# Altium footprint library Train2.PCBLIB: 223 footprints (part 4 of 14)
Each footprint in its own frame and in the unit in brackets; x right, y up, seen from the top. Pads: shape width x height; smd on the part's side, far side on the other; paste and mask are expansions set on the pad; w line width, h text height; cw(c..) or ccw(c..) is an arc to the next point about the centre after c.
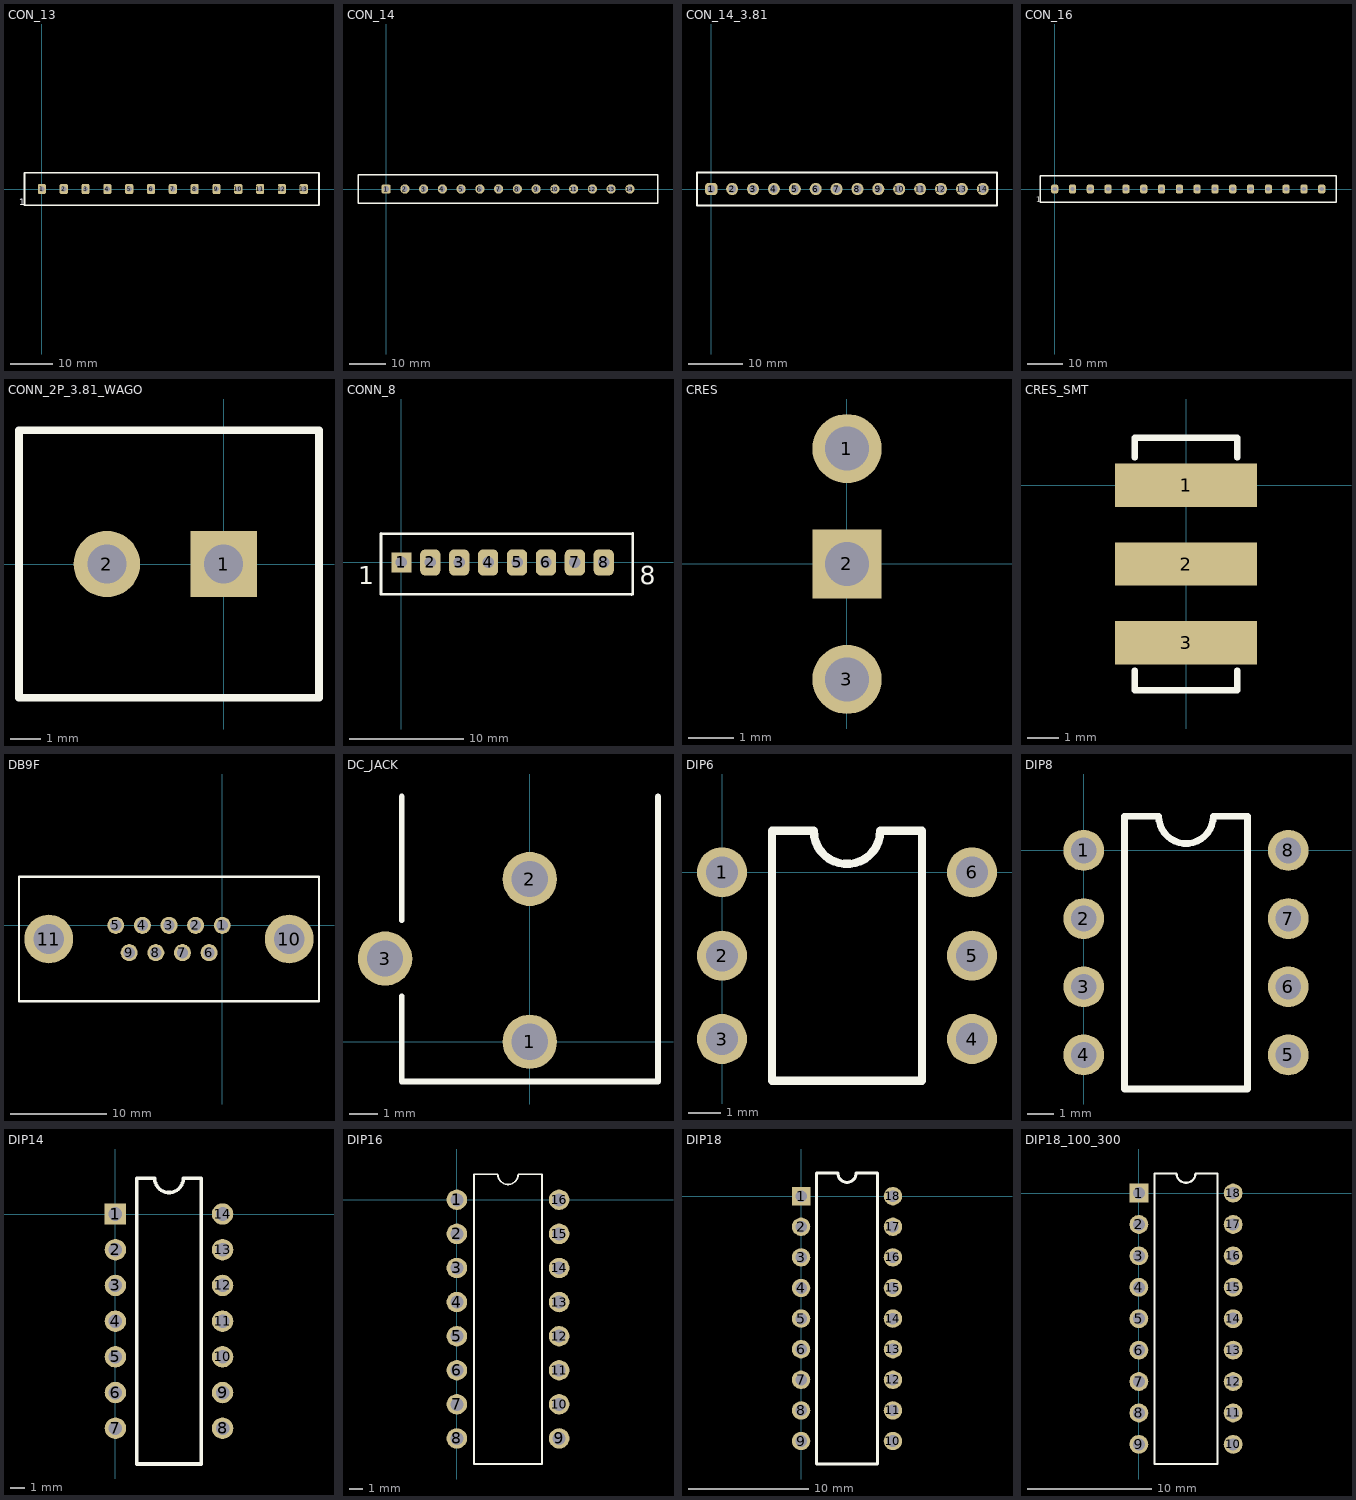
[diagram p3: the footprints below, top view; thin cyan lines are the x and y axes]

## CON_13 [mil]
pads (13):
  rrect50% 75x95 hole 48: 1(0,0) 2(200,0) 3(400,0) 4(600,0) 5(800,0) 6(1000,0) 7(1200,0) 8(1400,0) 9(1600,0) 10(1800,0) 11(2000,0) 12(2200,0) 13(2400,0)
Top Overlay:
  lines w15: -160,-150 -160,150 2540,150 2540,-150 -160,-150
  text "1" at -210,-150 h60

## CON_14 [mm]
pads (14):
  rrect50% 2.5x2.5 hole 1.52: 1(0,0)
  round 2.5 hole 1.52: 2(5.08,0) 3(10.16,0) 4(15.24,0) 5(20.32,0) 6(25.4,0) 7(30.48,0) 8(35.56,0) 9(40.64,0) 10(45.72,0) 11(50.8,0) 12(55.88,0) 13(60.96,0) 14(66.04,0)
Top Overlay:
  lines w0.381: -7.62,-3.81 73.66,-3.81 73.66,3.81 -7.62,3.81 -7.62,-3.81

## CON_14_3.81 [mm]
pads (14):
  rrect50% 2.2x2.2 hole 1.4: 1(0,0)
  round 2.2 hole 1.4: 2(3.81,0) 3(7.62,0) 4(11.43,0) 5(15.24,0) 6(19.05,0) 7(22.86,0) 8(26.67,0) 9(30.48,0) 10(34.29,0) 11(38.1,0) 12(41.91,0) 13(45.72,0) 14(49.53,0)
Top Overlay:
  lines w0.381: -2.6,-3 52.13,-3 52.13,3 -2.6,3 -2.6,-3

## CON_16 [mil]
pads (16):
  rrect50% 80x97 hole 50: 1(0,0) 2(200,0) 3(400,0) 4(600,0) 5(800,0) 6(1000,0) 7(1200,0) 8(1400,0) 9(1600,0) 10(1800,0) 11(2000,0) 12(2200,0) 13(2400,0) 14(2600,0) 15(2800,0) 16(3000,0)
Top Overlay:
  lines w15: -160,-150 -160,150 3160,150 3160,-150 -160,-150
  text "1" at -210,-150 h60

## CONN_2P_3.81_WAGO [mil] "WAGO MCS-MINI CONNECTOR"
height 405.51
pads (2):
  rect 85x85 hole 50: 1(0,0)
  round 85 hole 50: 2(-149.61,0)
Top Overlay:
  lines w10: -262.2,-171.26 -262.2,171.26 122.05,171.26 122.05,-171.26 -262.2,-171.26

## CONN_8 [mil]
pads (8):
  rect 70x70 hole 40: 1(0,0)
  rrect50% 70x90 hole 40: 2(100,0) 3(200,0) 4(300,0) 5(400,0) 6(500,0) 7(600,0) 8(700,0)
Top Overlay:
  lines w10: 796,-111 -70,-110 -70,100 796,99 ; 800,-110 800,100
  text "8" at 825,-75 h62.5
  text "1" at -150,-75 h62.5

## CRES [mil]
pads (3):
  round 60 hole 38: 1(0,100) 3(0,-100)
  rect 60x60 hole 38: 2(0,0)

## CRES_SMT [mil]
pads (3):
  rect 180x55 smd: 1(0,0) 2(0,-100) 3(0,-200)
Top Overlay:
  lines w8: -65,-235 -65,-260 65,-260 65,-235 ; -65,35 -65,60 65,60 65,35

## DB9F [mil]
pads (11):
  round 70 hole 46: 1(0,0) 2(-109,0) 3(-218,0) 4(-327,0) 5(-436,0) 6(-54,-112) 7(-163,-112) 8(-272,-112) 9(-381,-112)
  round 200 hole 124: 10(274,-56) 11(-710,-56)
Top Overlay:
  lines w10: -832,-311 396,-311 396,199 -832,199 -832,-311

## DC_JACK [mil]
pads (3):
  round 75 hole 50: 1(0,0) 2(0,225) 3(-200,115)
Top Overlay:
  lines w7.87: -177.17,63 -177.17,-54.8 -32,-54.8 177.17,-54.8 177.17,339 ; -177.17,168 -177,339

## DIP6 [mil]
pads (6):
  round 60 hole 38: 1(0,0) 2(0,-100) 3(0,-200) 4(300,-200) 5(300,-100) 6(300,0)
Top Overlay:
  lines w10: 60,-250 240,-250 240,50 190,50 cw(c150,50) 110,50 60,50 60,-250

## DIP8 [mil]
pads (8):
  round 60 hole 38: 1(0,0) 2(0,-100) 3(0,-200) 4(0,-300) 5(300,-300) 6(300,-200) 7(300,-100) 8(300,0)
Top Overlay:
  lines w10: 60,-350 60,50 110,50 ccw(c150,50) 190,50 240,50 240,-350 60,-350

## DIP14 [mil]
pads (14):
  rect 60x60 hole 38: 1(0,0)
  round 60 hole 38: 2(0,-100) 3(0,-200) 4(0,-300) 5(0,-400) 6(0,-500) 7(0,-600) 8(300,-600) 9(300,-500) 10(300,-400) 11(300,-300) 12(300,-200) 13(300,-100) 14(300,0)
Top Overlay:
  lines w10: 60,-700 240,-700 240,100 190,100 cw(c150,100) 110,100 60,100 60,-700

## DIP16 [mil]
pads (16):
  round 60 hole 38: 1(0,0) 2(0,-100) 3(0,-200) 4(0,-300) 5(0,-400) 6(0,-500) 7(0,-600) 8(0,-700) 9(300,-700) 10(300,-600) 11(300,-500) 12(300,-400) 13(300,-300) 14(300,-200) 15(300,-100) 16(300,0)
Top Overlay:
  lines w5: 50,-775 50,75 120,75 ccw(c150,75) 180,75 250,75 250,-775 50,-775

## DIP18 [mil]
pads (18):
  rect 60x60 hole 38: 1(0,0)
  round 60 hole 38: 2(0,-100) 3(0,-200) 4(0,-300) 5(0,-400) 6(0,-500) 7(0,-600) 8(0,-700) 9(0,-800) 10(300,-800) 11(300,-700) 12(300,-600) 13(300,-500) 14(300,-400) 15(300,-300) 16(300,-200) 17(300,-100) 18(300,0)
Top Overlay:
  lines w10: 50,-875 250,-875 250,75 180,75 cw(c150,75) 120,75 50,75 50,-875

## DIP18_100_300 [mil]
pads (18):
  rect 60x60 hole 38: 1(0,0)
  round 60 hole 38: 2(0,-100) 3(0,-200) 4(0,-300) 5(0,-400) 6(0,-500) 7(0,-600) 8(0,-700) 9(0,-800) 10(300,-800) 11(300,-700) 12(300,-600) 13(300,-500) 14(300,-400) 15(300,-300) 16(300,-200) 17(300,-100) 18(300,0)
Top Overlay:
  lines w7: 50,-862.5 250,-862.5 250,62.5 180,62.5 cw(c150,62.5) 120,62.5 50,62.5 50,-862.5